# EAGLE library part RPI-ZERO (library tobias)
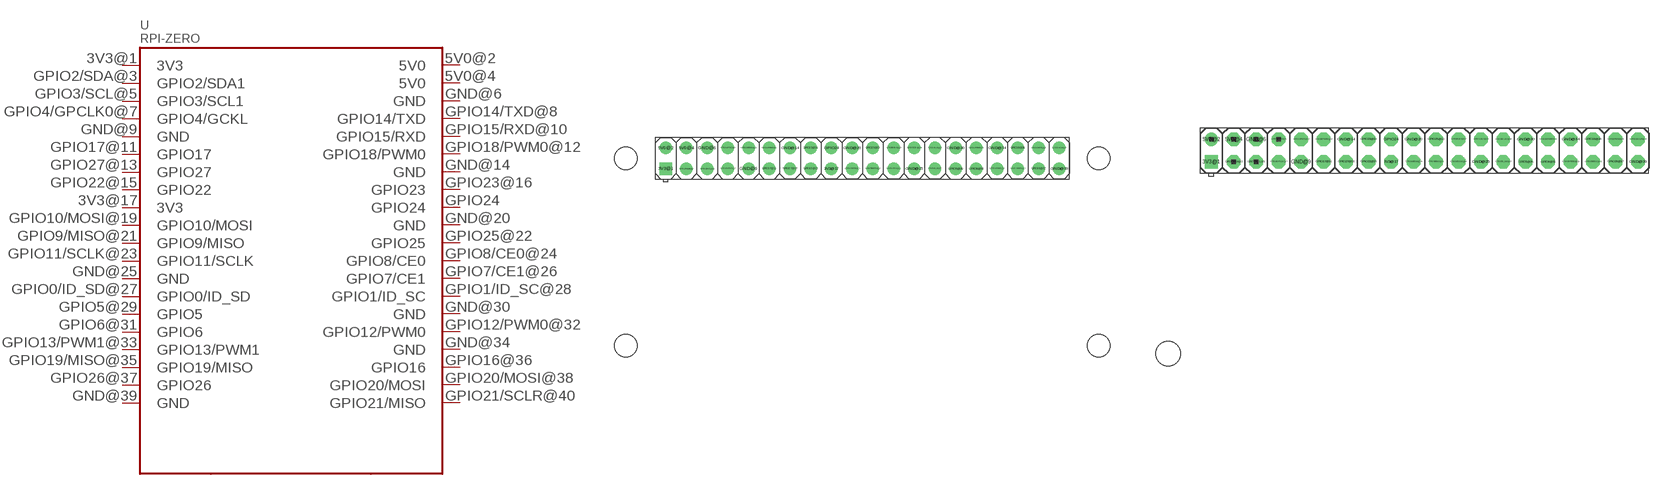
[diagram p5: symbol with the pads of RPI-ZERO-DRILLS; footprints RPI-ZERO-DRILLS, RPI-ZERO-NODRILLS]

Designator prefix -

## RPI-ZERODRILL  [RPI-ZERO-DRILLS]
3V3@1  3V3  sup
3V3@17  3V3  sup
5V0@2  5V0  sup
5V0@4  5V0  sup
GND@6  GND  sup
GND@9  GND  sup
GND@14  GND  sup
GND@20  GND  sup
GND@25  GND  sup
GND@30  GND  sup
GND@34  GND  sup
GND@39  GND  sup
GPIO0/ID_SD@27  GPIO0/ID_SD
GPIO1/ID_SC@28  GPIO1/ID_SC
GPIO2/SDA@3  GPIO2/SDA1
GPIO3/SCL@5  GPIO3/SCL1
GPIO4/GPCLK0@7  GPIO4/GCKL
GPIO5@29  GPIO5
GPIO6@31  GPIO6
GPIO7/CE1@26  GPIO7/CE1
GPIO8/CE0@24  GPIO8/CE0
GPIO9/MISO@21  GPIO9/MISO
GPIO10/MOSI@19  GPIO10/MOSI
GPIO11/SCLK@23  GPIO11/SCLK
GPIO12/PWM0@32  GPIO12/PWM0
GPIO13/PWM1@33  GPIO13/PWM1
GPIO14/TXD@8  GPIO14/TXD
GPIO15/RXD@10  GPIO15/RXD
GPIO16@36  GPIO16
GPIO17@11  GPIO17
GPIO18/PWM0@12  GPIO18/PWM0
GPIO19/MISO@35  GPIO19/MISO
GPIO20/MOSI@38  GPIO20/MOSI
GPIO21/SCLR@40  GPIO21/MISO
GPIO22@15  GPIO22
GPIO23@16  GPIO23
GPIO24  GPIO24
GPIO25@22  GPIO25
GPIO26@37  GPIO26
GPIO27@13  GPIO27

## RPI-ZERONODRILLS  [RPI-ZERO-NODRILLS]
Pads as for RPI-ZERO-DRILLS

## Footprint RPI-ZERO-DRILLS (pad centres in mm)
Raspberry Pi Zero, full outline with position of big connectors & drill holes
drill 1.016 square: 3V3@1 8.89,25.4
drill 1.016: 3V3@17 29.21,25.4; 5V0@2 8.89,27.94; 5V0@4 11.43,27.94; GND@6 13.97,27.94; GND@9 19.05,25.4; GND@14 24.13,27.94; GND@20 31.75,27.94; GND@25 39.37,25.4; GND@30 44.45,27.94; GND@34 49.53,27.94; GND@39 57.15,25.4; GPIO0/ID_SD@27 41.91,25.4; GPIO1/ID_SC@28 41.91,27.94; GPIO2/SDA@3 11.43,25.4; GPIO3/SCL@5 13.97,25.4; GPIO4/GPCLK0@7 16.51,25.4; GPIO5@29 44.45,25.4; GPIO6@31 46.99,25.4; GPIO7/CE1@26 39.37,27.94; GPIO8/CE0@24 36.83,27.94; GPIO9/MISO@21 34.29,25.4; GPIO10/MOSI@19 31.75,25.4; GPIO11/SCLK@23 36.83,25.4; GPIO12/PWM0@32 46.99,27.94; GPIO13/PWM1@33 49.53,25.4; GPIO14/TXD@8 16.51,27.94; GPIO15/RXD@10 19.05,27.94; GPIO16@36 52.07,27.94; GPIO17@11 21.59,25.4; GPIO18/PWM0@12 21.59,27.94; GPIO19/MISO@35 52.07,25.4; GPIO20/MOSI@38 54.61,27.94; GPIO21/SCLR@40 57.15,27.94; GPIO22@15 26.67,25.4; GPIO23@16 26.67,27.94; GPIO24 29.21,27.94; GPIO25@22 34.29,27.94; GPIO26@37 54.61,25.4; GPIO27@13 24.13,25.4
hole 2.75 at 3.99,3.66
hole 2.75 at 3.99,26.66
hole 2.75 at 61.99,3.66
hole 2.75 at 61.99,26.66

## Footprint RPI-ZERO-NODRILLS (pad centres in mm)
Raspberry Pi Zero, full outline with position of big connectors & drill holes
drill 1.016 square: 3V3@1 8.89,25.4
drill 1.016 octagon: 3V3@17 29.21,25.4; 5V0@4 11.43,27.94; GND@6 13.97,27.94; GND@9 19.05,25.4; GND@14 24.13,27.94; GND@20 31.75,27.94; GND@25 39.37,25.4; GND@30 44.45,27.94; GND@34 49.53,27.94; GND@39 57.15,25.4; GPIO0/ID_SD@27 41.91,25.4; GPIO1/ID_SC@28 41.91,27.94; GPIO2/SDA@3 11.43,25.4; GPIO3/SCL@5 13.97,25.4; GPIO4/GPCLK0@7 16.51,25.4; GPIO5@29 44.45,25.4; GPIO6@31 46.99,25.4; GPIO7/CE1@26 39.37,27.94; GPIO8/CE0@24 36.83,27.94; GPIO9/MISO@21 34.29,25.4; GPIO10/MOSI@19 31.75,25.4; GPIO11/SCLK@23 36.83,25.4; GPIO12/PWM0@32 46.99,27.94; GPIO13/PWM1@33 49.53,25.4; GPIO14/TXD@8 16.51,27.94; GPIO15/RXD@10 19.05,27.94; GPIO16@36 52.07,27.94; GPIO17@11 21.59,25.4; GPIO18/PWM0@12 21.59,27.94; GPIO19/MISO@35 52.07,25.4; GPIO20/MOSI@38 54.61,27.94; GPIO21/SCLR@40 57.15,27.94; GPIO22@15 26.67,25.4; GPIO23@16 26.67,27.94; GPIO24 29.21,27.94; GPIO25@22 34.29,27.94; GPIO26@37 54.61,25.4; GPIO27@13 24.13,25.4
drill 1.016: 5V0@2 8.89,27.94